# Altium schematic symbol library MIC2287C.Schlib: 1 symbol
Pins are listed as number, name and electrical type; pins without a type are passive.

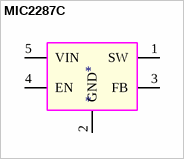
[diagram p0: symbol MIC2287C]

## MIC2287C
designator *
Micrel White LED Driver
pins: 1 SW, 2 GND, 3 FB, 4 EN, 5 VIN